# Altium schematic symbol library CT.Schlib: 1 symbol
Pins are listed as number, name and electrical type; pins without a type are passive.

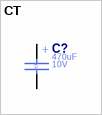
[diagram p0: symbol CT]

## CT
designator C?  Case/Package: D  Capacitance: 470uF  Voltage Rating (DC): 10V  (hidden comment: CT)
Capacitor
pins: 1, 2
2 alternate drawings of the same symbol
text: +